# EAGLE library part ADE-1L (library ade_3g)
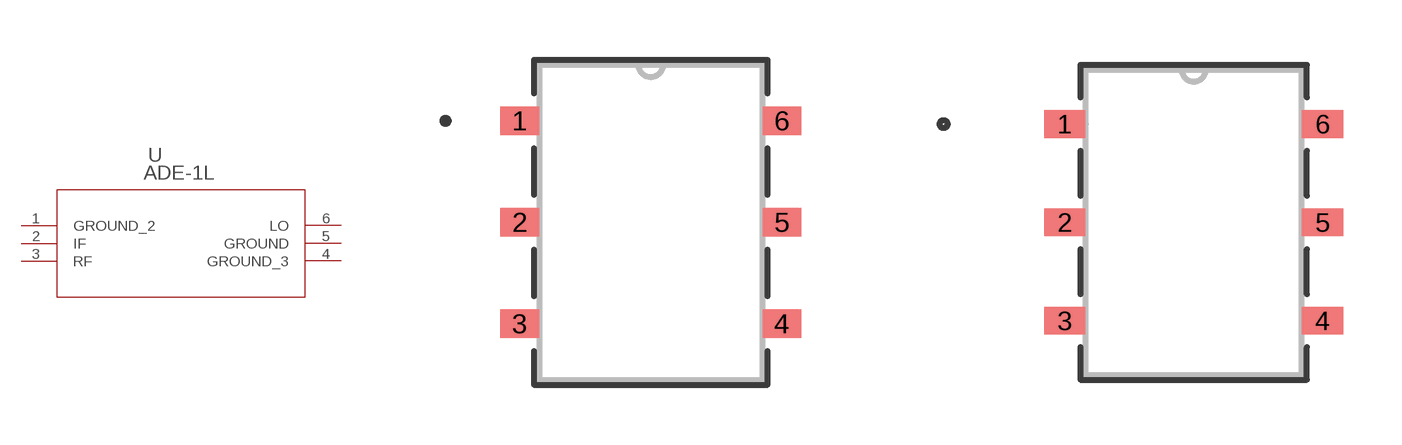
[diagram p0: symbol with the pads of CD542_MNC; footprints CD542_MNC, CD542_MNC-M]

Designator prefix U

## ADE-1L (BUILT_BY: EMA_Cory; COPYRIGHT: Copyright (C) 2018 Accelerated Designs. All rights reserved; MANUFACTURER_PART_NUMBER: ADE-1L; SOURCELIBRARY: Mini_Circuits_2019-12-02; VENDOR: Mini Circuits)  [CD542_MNC]
1  GROUND_2  pas
2  IF  pas
3  RF  pas
4  GROUND_3  pas
5  GROUND  pas
6  LO  pas

## ADE-1LCD542_MNC-M (BUILT_BY: EMA_Cory; COPYRIGHT: Copyright (C) 2018 Accelerated Designs. All rights reserved; MANUFACTURER_PART_NUMBER: ADE-1L; SOURCELIBRARY: Mini_Circuits_2019-12-02; VENDOR: Mini Circuits)  [CD542_MNC-M]
Pads as for CD542_MNC

## ADE-1LCD542_MNC-L (BUILT_BY: EMA_Cory; COPYRIGHT: Copyright (C) 2018 Accelerated Designs. All rights reserved; MANUFACTURER_PART_NUMBER: ADE-1L; SOURCELIBRARY: Mini_Circuits_2019-12-02; VENDOR: Mini Circuits)  [CD542_MNC-L]
Pads as for CD542_MNC

## Footprint CD542_MNC (pad centres in mm)
smd 0.965 x 0.711: 1 -3.277,2.54; 2 -3.277,0; 3 -3.277,-2.54; 4 3.277,-2.54; 5 3.277,0; 6 3.277,2.54

## Footprint CD542_MNC-M (pad centres in mm)
smd 1.067 x 0.711: 1 -3.327,2.54; 2 -3.327,0; 3 -3.327,-2.54; 4 3.327,-2.54; 5 3.327,0; 6 3.327,2.54

## Footprint CD542_MNC-L (pad centres in mm)
smd 0.864 x 0.711: 1 -3.226,2.54; 2 -3.226,0; 3 -3.226,-2.54; 4 3.226,-2.54; 5 3.226,0; 6 3.226,2.54